# EAGLE library part USD-SOCKET (library MiiLib)
microSD Socket Part found on EBay
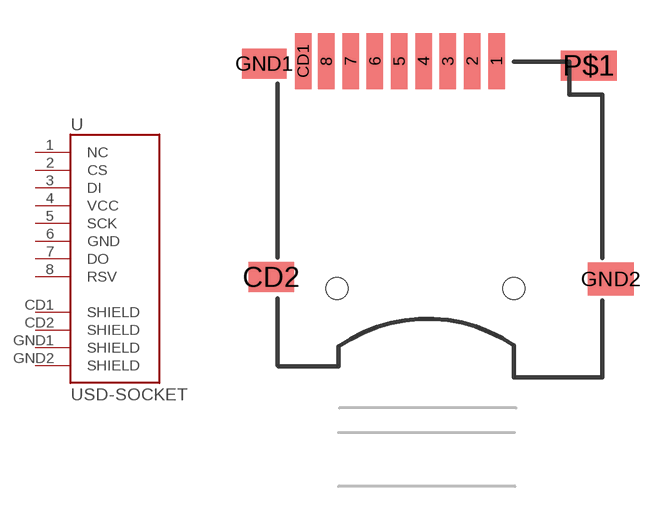
[diagram p2: symbol with the pads of USD-SOCKET-PP; footprint USD-SOCKET-PP]

Designator prefix U

## USD-SOCKETUSD  [USD-SOCKET-PP]
1  NC
2  CS
3  DI
4  VCC
5  SCK
6  GND
7  DO
8  RSV
CD1  SHIELD
CD2  SHIELD
GND1  SHIELD
GND2  SHIELD

## Footprint USD-SOCKET-PP (pad centres in mm)
Socket From Internet
smd 0.75 x 2.54: 1 3.2,17.018; 2 2.1,17.018; 3 1,17.018; 4 -0.1,17.018; 5 -1.2,17.018; 6 -2.3,17.018; 7 -3.4,17.018; 8 -4.5,17.018; CD1 -5.55,17.018
smd 2.046 x 1.35: CD2 -6.995,7.25
smd 2.008 x 1.35: GND1 -7.313,16.905
smd 2.07 x 1.5: GND2 8.379,7.165
smd 2.54 x 1.35: P$1 7.38,16.82
hole 1 at 3.99,6.73
hole 1 at -4.02,6.73